# Altium schematic symbol library top_schlib.SchLib: 30 symbols
Pins are listed as number, name and electrical type; pins without a type are passive.

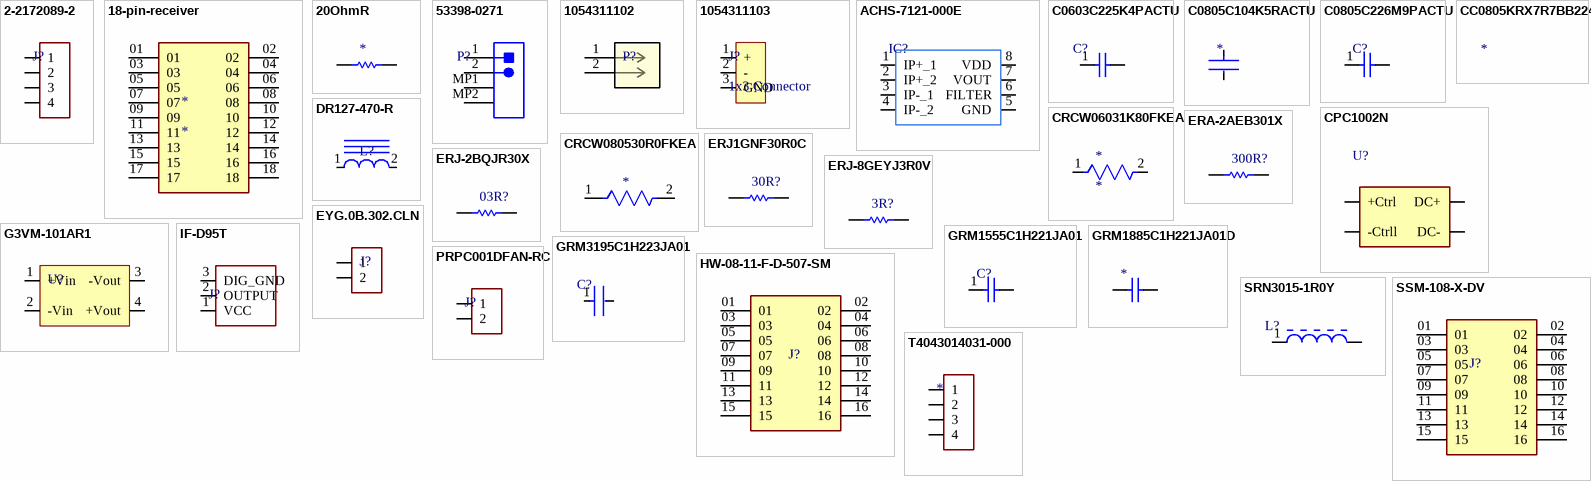
[diagram p0: symbols 2-2172089-2 to T4043014031-000]

## 2-2172089-2
designator J?  (value not drawn)
CONN RCPT FMALE 3POS GOLD SOLDER; Manufacturer: TE Connectivity; Manufacturer Part Number: 2-2172089-2; Plating: Nickel; Shielding: Shielded; Gender: Female; Connector Type: Receptacle,Socket; Connector System: Wire-to-Board; Mating Retention: Yes (With); Number of Positions: 3; Preloaded: Yes; Supplier 1: Digi-Key; Supplier Part Number 1: A120877-ND; RoHS: No; Category: Circular Connectors; Stock 1: 268; Pricing 1: 1=18.67000, 10=16.85000, 25=16.14400, 50=15.13500, 100=14.63050, 250=13.82332, 500=13.41970, 1000=13.11700 (USD); Number of Pins: 3; Color: Black; Housing Material: Metal; Insulation Material: Polyamide; Number of Signal Positions: 3; Sealable: Yes (With); ELV: Compliant; REACH SVHC: Unknown; ComponentLink1URL: http://farnell.com//datasheets/2236532.pdf?src-supplier=Farnell; ComponentLink1Description: http://farnell.com//datasheets/2236532.pdf?src-supplier=Farnell; ComponentLink2URL: https://media.digikey.com/pdf/Data%20Sheets/Tyco%20Electonics%20AMP%20PDFs/2172089.pdf?src-supplier=Digi-Key; ComponentLink2Description: https://media.digikey.com/pdf/Data%20Sheets/Tyco%20Electonics%20AMP%20PDFs/2172089.pdf?src-supplier=Digi-Key; ComponentLink3URL: http://www.farnell.com/datasheets/1945922.pdf?src-supplier=Element14; ComponentLink3Description: http://www.farnell.com/datasheets/1945922.pdf?src-supplier=Element14; ComponentLink4URL: http://www.farnell.com/cad/1879377.pdf?src-supplier=Element14; ComponentLink4Description: http://www.farnell.com/cad/1879377.pdf?src-supplier=Element14
footprint 2-2172089-2
pins: 1, 2, 3, 4

## 18-pin-receiver
designator *
footprint 18-pin-receiver
pins: 01, 02, 03, 04, 05, 06, 07, 08, 09, 10, 11, 12, 13, 14, 15, 16, 17, 18

## 20OhmR
designator *  (value not drawn)
CRCW060320R0FKEA Checked Res Thick Film 0603 20 Ohm 1% 1/10W 100ppm/C Molded SMD SMD Paper T/R Chip SMD Resistors 0.1
footprint 20Ohm
pins: 1, 2

## 53398-0271
designator P?  (value not drawn)
CONN HEADER SMD 2POS 1.25MM; Manufacturer: Molex; Manufacturer Part Number: 53398-0271; Voltage Rating: 125V; Current Rating: 1A; Contact Resistance: 20mR; Number of Positions: 2; Insulation Resistance: 100MR; Gender: Male; Glow Wire Compliant: Non-compliant; Supplier 1: Digi-Key; RoHS: Yes; Category: Headers and Wire Housings; Stock 1: 46070; Pricing 1: 1=0.53000, 10=0.49900, 100=0.38270, 500=0.33280 (USD); Mount: Surface Mount; Contact Material: Bronze,Brass,Tin; Contact Plating: Tin; Color: Natural; Housing Color: Natural; Housing Material: Nylon; Min Operating Temperature: -40°C; Max Operating Temperature: 85°C; Packaging: Tape and Reel; Package Quantity: 1000; Termination: Solder; Number of Rows: 1; Voltage Rating (AC): 125V; Number of Contacts: 2; Working Voltage: 125V; Orientation: Vertical; Number of Circuits: 2; Voltage Rating (DC): 125V; Pitch: 1.25mm; Radiation Hardening: No; REACH SVHC: Unknown; Lead Free: Lead Free; Flammability Rating: UL94 V-0; ComponentLink1URL: https://datasheet.ciiva.com/7167/1626130-7167520.pdf?src-supplier=Newark; ComponentLink1Description: https://datasheet.ciiva.com/7167/1626130-7167520.pdf?src-supplier=Newark; ComponentLink2URL: https://datasheet.ciiva.com/9468/0533980271-pcb-headers-9468512.pdf?src-supplier=Avnet; ComponentLink2Description: https://datasheet.ciiva.com/9468/0533980271-pcb-headers-9468512.pdf?src-supplier=Avnet; ComponentLink3URL: https://datasheet.ciiva.com/36178/1932619-36178944.pdf?src-supplier=Jameco; ComponentLink3Description: https://datasheet.ciiva.com/36178/1932619-36178944.pdf?src-supplier=Jameco; ComponentLink4URL: https://datasheet.ciiva.com/7920/1841150-7920834.pdf?src-supplier=Element14; ComponentLink4Description: https://datasheet.ciiva.com/7920/1841150-7920834.pdf?src-supplier=Element14; ComponentLink5URL: https://datasheet.ciiva.com/14156/gf116833-116846-e-14156243.pdf?src-supplier=Distrelec; ComponentLink5Description: https://datasheet.ciiva.com/14156/gf116833-116846-e-14156243.pdf?src-supplier=Distrelec; ComponentLink6URL: https://datasheet.ciiva.com/30229/225140533980271-pcb-headers-30229043.pdf?src-supplier=Onlinecomponents.com; ComponentLink6Description: https://datasheet.ciiva.com/30229/225140533980271-pcb-headers-30229043.pdf?src-supplier=Onlinecomponents.com; ComponentLink7URL: https://datasheet.ciiva.com/5150/0533980271-pcb-headers-146564-5150549.pdf?src-supplier=Mouser; ComponentLink7Description: https://datasheet.ciiva.com/5150/0533980271-pcb-headers-146564-5150549.pdf?src-supplier=Mouser; ComponentLink8URL: https://datasheet.ciiva.com/28523/1759360-28523372.pdf?src-supplier=Element14; ComponentLink8Description: https://datasheet.ciiva.com/28523/1759360-28523372.pdf?src-supplier=Element14; ComponentLink9URL: https://datasheet.ciiva.com/11746/0900766b80ab946a-11746463.pdf?src-supplier=RSComponents; ComponentLink9Description: https://datasheet.ciiva.com/11746/0900766b80ab946a-11746463.pdf?src-supplier=RSComponents; ComponentLink10URL: https://datasheet.ciiva.com/22707/1867379-22707654.pdf?src-supplier=Element14; ComponentLink10Description: https://datasheet.ciiva.com/22707/1867379-22707654.pdf?src-supplier=Element14; ComponentLink11URL: https://datasheet.ciiva.com/18454/70090670-18454279.pdf?src-supplier=Allied+Electronics; ComponentLink11Description: https://datasheet.ciiva.com/18454/70090670-18454279.pdf?src-supplier=Allied+Electronics; ComponentLink12URL: https://datasheet.ciiva.com/22683/1626130-22683563.pdf?src-supplier=Element14; ComponentLink12Description: https://datasheet.ciiva.com/22683/1626130-22683563.pdf?src-supplier=Element14; ComponentLink13URL: https://datasheet.ciiva.com/16658/0533980271-pcb-headers-16658429.pdf?src-supplier=Avnet+Europe; ComponentLink13Description: https://datasheet.ciiva.com/16658/0533980271-pcb-headers-16658429.pdf?src-supplier=Avnet+Europe; Supplier Part Number 1: WM7606CT-ND
footprint 2X1HEADER
pins: 1, 2, MP1, MP2

## 1054311102
designator P?  (value not drawn)
Nano-Fit Vertical Header, Surface Mount, 2.50mm Pitch, Single Row, 2 Circuits, 0.76 u00B5m Tin (Sn) Plating, Black,...; Manufacturer: Molex; Manufacturer Part Number: 1054311102; Supplier 1: Digi-Key; Supplier Part Number 1: WM26073CT-ND; RoHS: No; Category: Connectors; Stock 1: 1192; Pricing 1: 1=2.05000, 10=1.85700, 100=1.59160 (USD)
footprint CONN_1054311102_MOL
pins: 1, 2

## 1054311103
designator J?, comment 1x3 Connector
Nano-Fit Vertical Header, Surface Mount, 2.50mm Pitch, Single Row, 3 Circuits, 0.76 u00B5m Tin (Sn) Plating, Black,...; Manufacturer: Molex; Manufacturer Part Number: 1054311103; Supplier 1: Digi-Key; RoHS: No; Category: Connectors; Stock 1: 573; Pricing 1: 1=2.43000, 10=2.20800, 100=1.89240 (USD); Supplier Part Number 1: WM26074CT-ND
footprint 3x1Header
pins: 1 +, 2 -, 3 GND

## ACHS-7121-000E
designator IC?
HALL EFFECT IC LF; Manufacturer: Broadcom; Manufacturer Part Number: ACHS-7121-000E; Polarity: Bidirectional; Current Sensing: 10A; Sensitivity: 185mV/A; Frequency: 80kHz; Linearity: 0.18%; Response Time: 4us; Max Supply Current: 15mA; Supplier 1: Digi-Key; Supplier Part Number 1: 516-4080-ND; RoHS: Yes; Category: Current Sensors; Stock 1: 5473; Pricing 1: 1=4.38000, 5=3.86000, 10=3.41100, 25=2.76720, 50=2.44520, 100=2.38100, 500=1.99484, 1000=1.86615, 5000=1.73745 (USD); Mount: Surface Mount; Case/Package: SOIC; Min Operating Temperature: -40°C; Max Operating Temperature: 110°C; Packaging: Rail/Tube; Sensing Method: Hall Effect; RoHS Compliant: Yes; ComponentLink1URL: https://docs.broadcom.com/docs/ACHS-712x-DS101?src-supplier=Digi-Key; ComponentLink1Description: https://docs.broadcom.com/docs/ACHS-712x-DS101?src-supplier=Digi-Key
footprint ACHS IC
pins: 1 IP+_1, 2 IP+_2, 3 IP-_1, 4 IP-_2, 5 GND, 6 FILTER, 7 VOUT, 8 VDD

## C0603C225K4PACTU
designator C?  (value not drawn)
KEMET - C0603C225K4PACTU - CAP, MLCC, X5R, 2.2UF, 16V, 0603; Dielectric Material: Ceramic; Tolerance: 10%; Dissipation Factor: 5%; Supplier 1: Digi-Key; Supplier Part Number 1: 399-7886-1-ND; Manufacturer: KEMET; Manufacturer Part Number: C0603C225K4PACTU; RoHS: Yes; Category: Ceramic Capacitors; Stock 1: 161677; Pricing 1: 1=0.13000, 10=0.09000, 50=0.05080, 100=0.04210, 500=0.02952, 1000=0.02444 (USD); Mount: Surface Mount; Case/Package: 0603; Number of Pins: 2; Case Code (Imperial): 0603; Case Code (Metric): 1608; Contact Plating: Tin,Matte; Min Operating Temperature: -55°C; Max Operating Temperature: 85°C; Capacitance: 2.2uF; Voltage Rating (DC): 16V; Packaging: Tape and Reel; Voltage Rating: 16V; Package Quantity: 1; Termination: SMD/SMT; Voltage: 16V; Dielectric: X5R; Series: C; Construction: Flat; Length: 1.6mm; Width: 0.8mm; Height: 0.8mm; Depth: 0.8mm; Thickness: 0.034inch; Radiation Hardening: No; REACH SVHC: No SVHC; RoHS Compliant: Yes; Lead Free: Lead Free; ComponentLink1URL: https://datasheet.ciiva.com/5969/1776083-5969304.pdf?src-supplier=Farnell; ComponentLink1Description: https://datasheet.ciiva.com/5969/1776083-5969304.pdf?src-supplier=Farnell; ComponentLink2URL: https://datasheet.ciiva.com/7823/1776083-7823706.pdf?src-supplier=Element14; ComponentLink2Description: https://datasheet.ciiva.com/7823/1776083-7823706.pdf?src-supplier=Element14
footprint 2.2uF
pins: 1, 2

## C0805C104K5RACTU
designator *  (value not drawn)
Cap Ceramic 0.1uF 50V X7R 10% SMD 2.0 x 1.2 mm 125 C Paper T/R; Manufacturer: KEMET; Manufacturer Part Number: C0805C104K5RACTU; Capacitance: 100nF; Voltage: 500V; Supplier 1: Digi-Key; Supplier Part Number 1: 399-1170-1-ND; RoHS: Yes; Category: Ceramic Capacitors; Stock 1: 2447786; Pricing 1: 1=0.15000, 10=0.11000, 50=0.06220, 100=0.05150, 500=0.03612, 1000=0.02991 (USD); Mount: Surface Mount,PCB; Case/Package: 0805; Number of Pins: 2; Case Code (Imperial): 0805; Case Code (Metric): 2012; Contact Plating: Tin,Matte; Dielectric Material: Ceramic; Min Operating Temperature: -55°C; Max Operating Temperature: 125°C; Voltage Rating: 50V; Tolerance: 10%; Packaging: Tape and Reel; Dielectric: X7R; Package Quantity: 4000; Voltage Rating (DC): 50V; Series: C0805C; Termination: SMD/SMT; Construction: Flat; Length: 2mm; Width: 1.2mm; Height: 0.9mm; Thickness: 0.035inch; Depth: 1.25mm; Lead Pitch: 0.75mm; Radiation Hardening: No; RoHS Compliant: Yes; REACH SVHC: No SVHC; ComponentLink1URL: https://datasheet.ciiva.com/28682/1851736-28682232.pdf?src-supplier=Element14; ComponentLink1Description: https://datasheet.ciiva.com/28682/1851736-28682232.pdf?src-supplier=Element14; ComponentLink2URL: https://datasheet.ciiva.com/14589/70095383-14589048.pdf?src-supplier=Allied+Electronics; ComponentLink2Description: https://datasheet.ciiva.com/14589/70095383-14589048.pdf?src-supplier=Allied+Electronics; ComponentLink3URL: https://datasheet.ciiva.com/32431/slceramic-chip-condensers-e-32431755.pdf?src-supplier=Distrelec; ComponentLink3Description: https://datasheet.ciiva.com/32431/slceramic-chip-condensers-e-32431755.pdf?src-supplier=Distrelec; ComponentLink4URL: https://datasheet.ciiva.com/18410/70095383-18410815.pdf?src-supplier=Allied+Electronics; ComponentLink4Description: https://datasheet.ciiva.com/18410/70095383-18410815.pdf?src-supplier=Allied+Electronics
footprint 100nF
pins: 1, 2

## C0805C226M9PACTU
designator C?  (value not drawn)
KEMET         C0805C226M9PACTU            CERAMIC CAPACITOR, 22UF, 6.3V, X5R, 20%, 0805, FULL REEL; Dissipation Factor: 5%; Supplier 1: Digi-Key; Supplier Part Number 1: 399-4696-1-ND; Manufacturer: KEMET; Manufacturer Part Number: C0805C226M9PACTU; RoHS: Yes; Category: Ceramic Capacitors; Stock 1: 337605; Pricing 1: 1=0.21000, 10=0.14400, 50=0.08660, 100=0.07320, 500=0.05004, 1000=0.04428 (USD); Mount: Surface Mount,PCB; Case/Package: 0805; Number of Pins: 2; Case Code (Imperial): 0805; Case Code (Metric): 2012; Dielectric Material: Ceramic; Min Operating Temperature: -55°C; Max Operating Temperature: 85°C; Capacitance: 22uF; Tolerance: 20%; Package Quantity: 2500; Voltage Rating: 6.3V; Voltage Rating (DC): 6.3V; Packaging: Tape and Reel; Termination: SMD/SMT; Voltage: 6.3V; Construction: Flat; Dielectric: X5R; Length: 2mm; Width: 1.2mm; Height: 1.25mm; Depth: 1.25mm; Radiation Hardening: No; Lead Free: Lead Free; REACH SVHC: No SVHC; RoHS Compliant: Yes; ComponentLink1URL: https://datasheet.ciiva.com/7842/40889-7842585.pdf?src-supplier=Element14; ComponentLink1Description: https://datasheet.ciiva.com/7842/40889-7842585.pdf?src-supplier=Element14; ComponentLink2URL: https://datasheet.ciiva.com/18193/getdatasheetpartid-344134-18193702.pdf?src-supplier=Verical; ComponentLink2Description: https://datasheet.ciiva.com/18193/getdatasheetpartid-344134-18193702.pdf?src-supplier=Verical; ComponentLink3URL: https://datasheet.ciiva.com/22748/1918694-22748303.pdf?src-supplier=Element14; ComponentLink3Description: https://datasheet.ciiva.com/22748/1918694-22748303.pdf?src-supplier=Element14
footprint 22uF
pins: 1, 2

## CC0805KRX7R7BB224
designator *  (value not drawn)
CERAMIC CAPACITOR 0.22UF, 16V, X7R, 10%, 0805; Product Range:CC Series; Capacitance:0.22 F; Capacitance Tolerance: 10%; Dielectric Characteristic:X7R; Voltage Rating:16V; Ceramic Capacitor Case:0805 [2012 Metric]; Packaging:Cut Tape;RoHS Compliant: Yes; Manufacturer: Yageo; Manufacturer Part Number: CC0805KRX7R7BB224; Capacitance: 220nF; Insulation Resistance: 100GR; Supplier 1: Digi-Key; Supplier Part Number 1: 311-3390-1-ND; RoHS: Yes; Category: Ceramic Capacitors; Stock 1: 7010; Pricing 1: 1=0.19000, 10=0.13800, 50=0.07820, 100=0.06480, 500=0.04546, 1000=0.03763 (USD); Mount: Surface Mount; Case/Package: 0805; Number of Pins: 2; Case Code (Imperial): 0805; Case Code (Metric): 2012; Material: Ceramic; Dielectric Material: Ceramic; Min Operating Temperature: -55°C; Max Operating Temperature: 125°C; Voltage Rating: 16V; Packaging: Tape and Reel; Tolerance: 10%; Dielectric: X7R; Series: CC; Voltage: 16V; Termination: SMD/SMT; Length: 2mm; Width: 0.049inch; Height: 0.85mm; Depth: 1.25mm; Thickness: 0.037inch; Radiation Hardening: No; RoHS Compliant: Yes; REACH SVHC: Unknown; Lead Free: Lead Free; Halogen Free: Halogen Free; ComponentLink1URL: https://datasheet.ciiva.com/8034/1489800-8034021.pdf?src-supplier=Element14; ComponentLink1Description: https://datasheet.ciiva.com/8034/1489800-8034021.pdf?src-supplier=Element14; ComponentLink2URL: https://datasheet.ciiva.com/8034/1489800-8034022.pdf?src-supplier=Element14; ComponentLink2Description: https://datasheet.ciiva.com/8034/1489800-8034022.pdf?src-supplier=Element14; ComponentLink3URL: https://datasheet.ciiva.com/7978/1489800-7978206.pdf?src-supplier=Element14; ComponentLink3Description: https://datasheet.ciiva.com/7978/1489800-7978206.pdf?src-supplier=Element14; ComponentLink4URL: https://datasheet.ciiva.com/15189/getdatasheetpartid-315919-15189222.pdf?src-supplier=Verical; ComponentLink4Description: https://datasheet.ciiva.com/15189/getdatasheetpartid-315919-15189222.pdf?src-supplier=Verical; ComponentLink5URL: https://datasheet.ciiva.com/16624/upy-gphc-x7r-6-3v-to-50v-8-16624663.pdf?src-supplier=Avnet+Europe; ComponentLink5Description: https://datasheet.ciiva.com/16624/upy-gphc-x7r-6-3v-to-50v-8-16624663.pdf?src-supplier=Avnet+Europe

## CPC1002N
designator U?, comment Solid state relay  (value not drawn)
footprint CPC1002N (Solid-State Relay)
pins: 1 +Ctrl, 2 -Ctrll, 3 DC-, 4 DC+

## CRCW06031K80FKEA
designator *
Res Thick Film 0603 1.8K Ohm 1% 1/10W ±100ppm/°C Molded SMD Paper T/R; Manufacturer: Vishay; Manufacturer Part Number: CRCW06031K80FKEA; Resistance: 1.8kR; Power Rating: 100mW; Voltage Rating: 75V; Supplier 1: RSComponents; RoHS: Yes; Category: Chip SMD Resistors; Stock 1: 7900; Pricing 1: 50=0.06500, 500=0.06000, 1000=0.05600, 2000=0.05200, 4000=0.04800 (USD); Case/Package: 0603; Case Code (Metric): 1608; Case Code (Imperial): 0603; Contact Plating: Tin; Weight: 7.1E-05oz; Size Code: 0603; Min Operating Temperature: -55°C; Max Operating Temperature: 155°C; Resistor Type: Thick Film; Tolerance: 1%; Packaging: Tape and Reel; Package Quantity: 5000; Temperature Coefficient: 100ppm/°C; Series: CRCW; Resistance Tolerance: 1%; Number of Terminations: 2; Max Power Dissipation: 100mW; Termination: SMD/SMT; Construction: Rectangular; Voltage Rating (DC): 75V; Features: Automotive AEC-Q200; Technology: THICK FILM; Length: 1.55mm; Width: 0.033inch; Height: 0.45mm; Depth: 0.85mm; Radiation Hardening: No; RoHS Compliant: Yes; REACH SVHC: Unknown; Military Standard: Not; Lead Free: Lead Free; ComponentLink1URL: https://datasheet.ciiva.com/11809/0900766b80d98afc-11809198.pdf?src-supplier=RSComponents; ComponentLink1Description: https://datasheet.ciiva.com/11809/0900766b80d98afc-11809198.pdf?src-supplier=RSComponents; ComponentLink2URL: https://datasheet.ciiva.com/2559/dcrcwe3-2559458.pdf?src-supplier=Digi-Key; ComponentLink2Description: https://datasheet.ciiva.com/2559/dcrcwe3-2559458.pdf?src-supplier=Digi-Key; ComponentLink3URL: https://datasheet.ciiva.com/2559/dcrcwe3-2559459.pdf?src-supplier=Digi-Key; ComponentLink3Description: https://datasheet.ciiva.com/2559/dcrcwe3-2559459.pdf?src-supplier=Digi-Key; ComponentLink4URL: https://datasheet.ciiva.com/2559/dcrcwe3-2559460.pdf?src-supplier=Digi-Key; ComponentLink4Description: https://datasheet.ciiva.com/2559/dcrcwe3-2559460.pdf?src-supplier=Digi-Key; ComponentLink5URL: https://datasheet.ciiva.com/3257/dcrcwe3-3257191.pdf?src-supplier=Avnet; ComponentLink5Description: https://datasheet.ciiva.com/3257/dcrcwe3-3257191.pdf?src-supplier=Avnet; ComponentLink6URL: https://datasheet.ciiva.com/5547/dcrcwe3-109170-5547689.pdf?src-supplier=Mouser; ComponentLink6Description: https://datasheet.ciiva.com/5547/dcrcwe3-109170-5547689.pdf?src-supplier=Mouser; ComponentLink7URL: https://datasheet.ciiva.com/26314/fld-crcw-e3-data-en-26314680.pdf?src-supplier=Distrelec; ComponentLink7Description: https://datasheet.ciiva.com/26314/fld-crcw-e3-data-en-26314680.pdf?src-supplier=Distrelec; ComponentLink8URL: https://datasheet.ciiva.com/22872/70201119-22872444.pdf?src-supplier=Allied+Electronics; ComponentLink8Description: https://datasheet.ciiva.com/22872/70201119-22872444.pdf?src-supplier=Allied+Electronics; ComponentLink9URL: https://datasheet.ciiva.com/7673/1533075-7673143.pdf?src-supplier=Element14; ComponentLink9Description: https://datasheet.ciiva.com/7673/1533075-7673143.pdf?src-supplier=Element14
footprint 2kOhm
pins: 1, 2

## CRCW080530R0FKEA
designator *  (value not drawn)
Res Thick Film 0805 30 Ohm 1% 1/8W 100ppm/C Molded SMD SMD Paper T/R; Manufacturer: Vishay; Manufacturer Part Number: CRCW080530R0FKEA; Resistance: 30R; Power Rating: 125mW; Voltage Rating: 150V; Temperature Coefficient: 100ppm/°C; Supplier 1: Digi-Key; Supplier Part Number 1: 541-30.0CDKR-ND; RoHS: Yes; Category: Chip SMD Resistors; Pricing 1: 1=0.10000, 10=0.06700, 100=0.02710, 1000=0.01219, 2500=0.01058 (USD); Case/Package: 0805; Number of Pins: 2; Case Code (Metric): 2012; Case Code (Imperial): 0805; Contact Plating: Tin; Size Code: 0805; Weight: 0.000194oz; Min Operating Temperature: -55°C; Max Operating Temperature: 155°C; Tolerance: 1%; Packaging: Tape and Reel; Resistor Type: Thick Film; Voltage Rating (DC): 150V; Series: CRCW; Package Quantity: 10; Number of Terminations: 2; Max Power Dissipation: 125mW; Termination: SMD/SMT; Resistance Tolerance: 1%; Construction: Rectangular; Features: Automotive AEC-Q200; Technology: THICK FILM; Length: 2mm; Width: 0.049inch; Height: 0.45mm; Depth: 1.25mm; Radiation Hardening: No; RoHS Compliant: Yes; Lead Free: Lead Free; REACH SVHC: Unknown; Military Standard: Not; ComponentLink1URL: https://datasheet.ciiva.com/11810/0900766b80d98b26-11810429.pdf?src-supplier=RSComponents; ComponentLink1Description: https://datasheet.ciiva.com/11810/0900766b80d98b26-11810429.pdf?src-supplier=RSComponents; ComponentLink2URL: https://datasheet.ciiva.com/9019/dcrcwe3-9019231.pdf?src-supplier=Avnet; ComponentLink2Description: https://datasheet.ciiva.com/9019/dcrcwe3-9019231.pdf?src-supplier=Avnet; ComponentLink3URL: https://datasheet.ciiva.com/2467/dcrcwe3-2467377.pdf?src-supplier=Digi-Key; ComponentLink3Description: https://datasheet.ciiva.com/2467/dcrcwe3-2467377.pdf?src-supplier=Digi-Key; ComponentLink4URL: https://datasheet.ciiva.com/2467/dcrcwe3-2467378.pdf?src-supplier=Digi-Key; ComponentLink4Description: https://datasheet.ciiva.com/2467/dcrcwe3-2467378.pdf?src-supplier=Digi-Key; ComponentLink5URL: https://datasheet.ciiva.com/2467/dcrcwe3-2467379.pdf?src-supplier=Digi-Key; ComponentLink5Description: https://datasheet.ciiva.com/2467/dcrcwe3-2467379.pdf?src-supplier=Digi-Key; ComponentLink6URL: https://datasheet.ciiva.com/5550/dcrcwe3-109170-5550810.pdf?src-supplier=Mouser; ComponentLink6Description: https://datasheet.ciiva.com/5550/dcrcwe3-109170-5550810.pdf?src-supplier=Mouser; ComponentLink7URL: https://datasheet.ciiva.com/22682/1847332-22682669.pdf?src-supplier=Element14; ComponentLink7Description: https://datasheet.ciiva.com/22682/1847332-22682669.pdf?src-supplier=Element14; ComponentLink8URL: https://datasheet.ciiva.com/26316/fld-crcw-e3-data-en-26316525.pdf?src-supplier=Distrelec; ComponentLink8Description: https://datasheet.ciiva.com/26316/fld-crcw-e3-data-en-26316525.pdf?src-supplier=Distrelec; ComponentLink9URL: https://datasheet.ciiva.com/7732/1697337-7732101.pdf?src-supplier=Element14; ComponentLink9Description: https://datasheet.ciiva.com/7732/1697337-7732101.pdf?src-supplier=Element14; ComponentLink10URL: https://datasheet.ciiva.com/7732/1697337-7732102.pdf?src-supplier=Element14; ComponentLink10Description: https://datasheet.ciiva.com/7732/1697337-7732102.pdf?src-supplier=Element14; ComponentLink11URL: https://datasheet.ciiva.com/16852/dcrcwe3-16852253.pdf?src-supplier=Avnet+Europe; ComponentLink11Description: https://datasheet.ciiva.com/16852/dcrcwe3-16852253.pdf?src-supplier=Avnet+Europe
footprint large30R
pins: 1, 2

## DR127-470-R
designator L?  (value not drawn)
FIXED IND 47UH 2.95A 71.9 MOHM; Manufacturer: Eaton Cooper; Manufacturer Part Number: DR127-470-R; Core Material: Ferrite; Tolerance: 20%; DC Resistance (DCR): 71.9mR; Max DC Current: 5.28A; Shielding: Shielded; Self Resonant Frequency: 100kHz; Inductor Type: POWER INDUCTOR; Supplier 1: Digi-Key; Supplier Part Number 1: 513-1050-1-ND; RoHS: Yes; Category: Fixed Inductors; Stock 1: 351; Pricing 1: 1=1.36000, 10=1.26800, 25=1.17000, 50=0.97500, 100=0.91650 (USD); Mount: Surface Mount; Case/Package: Nonstandard; Number of Pins: 2; Weight: 0.208oz; Min Operating Temperature: -40°C; Max Operating Temperature: 125°C; Package Quantity: 350; Packaging: Tape and Reel; Inductance Tolerance: 20%; Inductance: 47uH; Termination: SMD/SMT; Current Rating: 2.95A; Test Frequency: 100kHz; RMS Current (Irms): 2.95A; Series: DR; Saturation Current: 5.28A; Resistor Type: Wirewound; Rated Current-Max: 2.95A; Length: 12.5mm; Width: 0.492inch; Height: 8mm; Depth: 12.5mm; Height - Seated (Max): 0.315inch; Radiation Hardening: No; REACH SVHC: No SVHC; RoHS Compliant: Yes; Lead Free: Lead Free; Military Standard: Not; ComponentLink1URL: https://datasheet.ciiva.com/14667/0900766b8116a153-14667792.pdf?src-supplier=RSComponents; ComponentLink1Description: https://datasheet.ciiva.com/14667/0900766b8116a153-14667792.pdf?src-supplier=RSComponents; ComponentLink2URL: https://datasheet.ciiva.com/26858/getdatasheetpartid-251127-26858422.pdf?src-supplier=Verical; ComponentLink2Description: https://datasheet.ciiva.com/26858/getdatasheetpartid-251127-26858422.pdf?src-supplier=Verical; ComponentLink3URL: https://datasheet.ciiva.com/16940/70037876-16940727.pdf?src-supplier=Allied+Electronics; ComponentLink3Description: https://datasheet.ciiva.com/16940/70037876-16940727.pdf?src-supplier=Allied+Electronics; ComponentLink4URL: https://datasheet.ciiva.com/30240/43bus-elx-ds-4315-dr-ser-30240985.pdf?src-supplier=Onlinecomponents.com; ComponentLink4Description: https://datasheet.ciiva.com/30240/43bus-elx-ds-4315-dr-ser-30240985.pdf?src-supplier=Onlinecomponents.com; ComponentLink5URL: https://datasheet.ciiva.com/8005/87246-8005180.pdf?src-supplier=Element14; ComponentLink5Description: https://datasheet.ciiva.com/8005/87246-8005180.pdf?src-supplier=Element14
footprint 47 uH
pins: 1, 2

## ERA-2AEB301X
designator 300R?  (value not drawn)
PANASONIC ELECTRONIC COMPONENTS         ERA2AEB301X            Surface Mount Chip Resistor, Metal Film, AEC-Q200 ERA Series, 300 ohm, 63 mW,  0.1%, 25 V; Manufacturer Part Number: ERA-2AEB301X; Resistance: 300R; Temperature Coefficient: 25ppm/°C; Power Rating: 63mW; Voltage Rating: 25V; Supplier 1: Digi-Key; Supplier Part Number 1: P300DCCT-ND; Manufacturer: Panasonic; RoHS: Yes; Category: Chip SMD Resistors; Stock 1: 16035; Pricing 1: 1=0.39000, 10=0.27800, 100=0.11110, 1000=0.05474, 2500=0.05072, 5000=0.04589 (USD); Mount: Surface Mount; Case/Package: 0402; Contact Plating: Tin; Case Code (Metric): 1005; Case Code (Imperial): 0402; Min Operating Temperature: -55°C; Max Operating Temperature: 155°C; Tolerance: 0.1%; Resistor Type: Metal Film; Packaging: Tape and Reel; Package Quantity: 1; Number of Terminations: 2; Termination: SMD/SMT; Max Power Dissipation: 63mW; Voltage Rating (DC): 25V; Features: Automotive AEC-Q200; Series: ERA-2A; Construction: Rectangular; Resistance Tolerance: 0.1%; Length: 1mm; Width: 0.02inch; Height: 0.016inch; Depth: 0.5mm; Radiation Hardening: No; REACH SVHC: No SVHC; Military Standard: Not; Lead Free: Lead Free; RoHS Compliant: Yes; ComponentLink1URL: https://datasheet.ciiva.com/17206/aoa0000ce26-17206360.pdf?src-supplier=Avnet+Europe; ComponentLink1Description: https://datasheet.ciiva.com/17206/aoa0000ce26-17206360.pdf?src-supplier=Avnet+Europe; ComponentLink2URL: https://datasheet.ciiva.com/30166/54aoa0000ce26-30166093.pdf?src-supplier=Onlinecomponents.com; ComponentLink2Description: https://datasheet.ciiva.com/30166/54aoa0000ce26-30166093.pdf?src-supplier=Onlinecomponents.com; ComponentLink3URL: https://datasheet.ciiva.com/9183/aoa0000ce26-9183279.pdf?src-supplier=Avnet; ComponentLink3Description: https://datasheet.ciiva.com/9183/aoa0000ce26-9183279.pdf?src-supplier=Avnet; ComponentLink4URL: https://datasheet.ciiva.com/43470/1776116-43470491.pdf?src-supplier=Farnell; ComponentLink4Description: https://datasheet.ciiva.com/43470/1776116-43470491.pdf?src-supplier=Farnell; ComponentLink5URL: https://datasheet.ciiva.com/46378/1776116-46378191.pdf?src-supplier=Element14; ComponentLink5Description: https://datasheet.ciiva.com/46378/1776116-46378191.pdf?src-supplier=Element14
footprint 300 Ohm
pins: 1, 2

## ERJ1GNF30R0C
designator 30R?  (value not drawn)
Thick Film Resistors 0201 30ohm 1% HalogenFree AEC-Q200; Manufacturer: Panasonic; Manufacturer Part Number: ERJ1GNF30R0C; Resistance: 30R; Power Rating: 50mW; Voltage Rating: 25V; Temperature Coefficient: 200ppm/°C; Supplier 1: Digi-Key; Supplier Part Number 1: P122923CT-ND; RoHS: Yes; Category: Chip SMD Resistors; Stock 1: 45233; Pricing 1: 1=0.10000, 10=0.04600, 100=0.01890, 1000=0.00848, 2500=0.00736, 5000=0.00608 (USD); Mount: Surface Mount; Case/Package: 0201; Number of Pins: 2; Case Code (Metric): 0603; Case Code (Imperial): 0201; Weight: 6E-06oz; Min Operating Temperature: -55°C; Max Operating Temperature: 125°C; Packaging: Tape and Reel; Tolerance: 1%; Package Quantity: 15000; Resistor Type: Thick Film; Number of Terminations: 2; Termination: SMD/SMT; Max Power Dissipation: 50mW; Voltage Rating (DC): 25V; Series: ERJ; Construction: Rectangular; Resistance Tolerance: 1%; Length: 0.6mm; Width: 0.012inch; Height: 0.01inch; Depth: 0.3mm; Radiation Hardening: No; Military Standard: Not; RoHS Compliant: Yes; REACH SVHC: Unknown; ComponentLink1URL: https://datasheet.ciiva.com/43467/1678782-43467017.pdf?src-supplier=Farnell; ComponentLink1Description: https://datasheet.ciiva.com/43467/1678782-43467017.pdf?src-supplier=Farnell; ComponentLink2URL: https://datasheet.ciiva.com/46373/1678782-46373500.pdf?src-supplier=Element14; ComponentLink2Description: https://datasheet.ciiva.com/46373/1678782-46373500.pdf?src-supplier=Element14; ComponentLink3URL: https://datasheet.ciiva.com/24128/aoa0000ce2-24128351.pdf?src-supplier=Mouser; ComponentLink3Description: https://datasheet.ciiva.com/24128/aoa0000ce2-24128351.pdf?src-supplier=Mouser
footprint 30 Ohm
pins: 1, 2

## ERJ-2BQJR30X
designator 03R?  (value not drawn)
RES 0.3 OHM 5% 1/6W 0402; Manufacturer: Panasonic; Manufacturer Part Number: ERJ-2BQJR30X; Max Power Dissipation: 167mW; Temperature Coefficient: 250ppm/°C; Resistance: 300mR; Supplier 1: Digi-Key; Supplier Part Number 1: P17347CT-ND; RoHS: Yes; Category: Chip SMD Resistors; Stock 1: 18282; Pricing 1: 1=0.21000, 10=0.17600, 25=0.12800, 50=0.09280, 100=0.06880, 250=0.05280, 500=0.04160, 1000=0.02880, 5000=0.02400 (USD); Case/Package: 0402; Case Code (Imperial): 0402; Case Code (Metric): 1005; Min Operating Temperature: -55°C; Max Operating Temperature: 125°C; Features: Automotive AEC-Q200; Tolerance: 5%; Packaging: Tape and Reel; Resistor Type: Thick Film; Number of Terminations: 2; Length: 0.039inch; Width: 0.02inch; Height: 0.016inch; ComponentLink1URL: http://www.mouser.com/ds/2/315/AOA0000C295-1109214.pdf?src-supplier=Mouser; ComponentLink1Description: http://www.mouser.com/ds/2/315/AOA0000C295-1109214.pdf?src-supplier=Mouser; ComponentLink2URL: https://industrial.panasonic.com/cdbs/www-data/pdf/RDN0000/AOA0000C313.pdf?src-supplier=Digi-Key; ComponentLink2Description: https://industrial.panasonic.com/cdbs/www-data/pdf/RDN0000/AOA0000C313.pdf?src-supplier=Digi-Key
footprint 03 Ohm
pins: 1, 2

## ERJ-8GEYJ3R0V
designator 3R?  (value not drawn)
Res Thick Film 1206 3 Ohm 5% 1/4W -100ppm/C to 600ppm/C Molded SMD Punched Carrier T/R; Manufacturer: Panasonic; Manufacturer Part Number: ERJ-8GEYJ3R0V; Resistance: 3R; Temperature Coefficient: 600ppm/°C; Power Rating: 250mW; Voltage Rating: 200V; Supplier 1: Digi-Key; Supplier Part Number 1: P3.0ECT-ND; RoHS: Yes; Category: Chip SMD Resistors; Stock 1: 140112; Pricing 1: 1=0.10000, 10=0.05900, 100=0.02420, 1000=0.01087, 2500=0.00943 (USD); Mount: Surface Mount; Case/Package: 1206; Case Code (Metric): 3216; Case Code (Imperial): 1206; Contact Plating: Tin; Min Operating Temperature: -55°C; Max Operating Temperature: 155°C; Tolerance: 5%; Packaging: Tape and Reel; Resistor Type: Thick Film; Number of Terminations: 2; Max Power Dissipation: 250mW; Voltage Rating (DC): 200V; Package Quantity: 1; Features: Automotive AEC-Q200; Series: ERJ; Construction: Rectangular; Resistance Tolerance: 5%; Length: 3.2mm; Width: 0.063inch; Height: 0.028inch; Depth: 1.6mm; Radiation Hardening: No; Lead Free: Lead Free; RoHS Compliant: Yes; Military Standard: Not; REACH SVHC: No SVHC; ComponentLink1URL: https://datasheet.ciiva.com/30180/4aoa0000ce1-30180605.pdf?src-supplier=Onlinecomponents.com; ComponentLink1Description: https://datasheet.ciiva.com/30180/4aoa0000ce1-30180605.pdf?src-supplier=Onlinecomponents.com; ComponentLink2URL: https://datasheet.ciiva.com/17213/aoa0000ce1-17213823.pdf?src-supplier=Avnet+Europe; ComponentLink2Description: https://datasheet.ciiva.com/17213/aoa0000ce1-17213823.pdf?src-supplier=Avnet+Europe; ComponentLink3URL: https://datasheet.ciiva.com/46387/1500035-46387035.pdf?src-supplier=Element14; ComponentLink3Description: https://datasheet.ciiva.com/46387/1500035-46387035.pdf?src-supplier=Element14; ComponentLink4URL: https://datasheet.ciiva.com/46374/1500035-46374140.pdf?src-supplier=Element14; ComponentLink4Description: https://datasheet.ciiva.com/46374/1500035-46374140.pdf?src-supplier=Element14; ComponentLink5URL: https://datasheet.ciiva.com/9196/aoa0000ce1-9196703.pdf?src-supplier=Avnet; ComponentLink5Description: https://datasheet.ciiva.com/9196/aoa0000ce1-9196703.pdf?src-supplier=Avnet
footprint 3 ohm
pins: 1, 2

## EYG.0B.302.CLN
designator J?  (value not drawn)
Circular Push Pull Connectors FIX RECPT F PR CRCT; Manufacturer: LEMO; Manufacturer Part Number: EYG.0B.302.CLN; Current Rating: 10A; Connector Type: Receptacle; Number of Positions: 2; Gender: Female; Ratings: IP50; Supplier 1: Digi-Key; Supplier Part Number 1: EYG.0B.302.CLN-ND; RoHS: Yes; Category: Circular Connectors; Pricing 1: 1=29.67000, 10=26.78700, 25=25.66400, 50=24.06000, 100=23.25800, 250=21.97480, 500=21.33320, 1000=20.85200 (USD); Mount: Through Hole,Panel,Bulkhead; Contact Plating: Gold; Housing Material: Brass; Min Operating Temperature: -55°C; Max Operating Temperature: 250°C; Package Quantity: 1; Packaging: Bulk; Fastening Type: Push,Pull; Termination: Solder; Number of Contacts: 2; Features: Shielded; Diameter: 12mm; Length: 15mm; ComponentLink1URL: https://datasheet.ciiva.com/5104/unipole-multipole-5104333.pdf?src-supplier=Mouser; ComponentLink1Description: https://datasheet.ciiva.com/5104/unipole-multipole-5104333.pdf?src-supplier=Mouser
footprint EYG.0B.302.CLN (Socket, Female, Body 9mm dia. Height 15 mm, Through hole)
pins: 1, 2

## G3VM-101AR1
designator U?, comment MOSFET Relay  (value not drawn)
Solid State Relays - PCB Mount High power, 2.0-A switching with a 100-V load voltage, DIP4 package. Low 110 mO ON Resistance.; Manufacturer: Omron; Manufacturer Part Number: G3VM-101AR1; Supplier 1: Newark; Supplier Part Number 1: 64AH3544; RoHS: No; Stock 1: 70; Pricing 1: 1=8.30000, 5=7.51000, 10=7.32000, 25=7.16000, 50=6.80000, 100=6.12000, 250=5.64000 (USD)
footprint G3VM Relay
pins: 1 +Vin, 2 -Vin, 3 -Vout, 4 +Vout

## GRM1555C1H221JA01
designator C?  (value not drawn)
MURATA - 220 pF; Manufacturer: KEMET; Manufacturer Part Number: C0402C221K5RACTU; Dielectric Material: Ceramic; Capacitance: 220pF; Voltage Rating: 50V; Tolerance: 10%; Dielectric: X7R; Dissipation Factor: 2.5%; RoHS: Yes; Category: Ceramic Capacitors; Stock 1: 199654; Pricing 1: 1=0.10000, 10=0.03600, 50=0.01980, 100=0.01620, 500=0.01156, 1000=0.00908, 2500=0.00825, 5000=0.00759 (USD); Mount: Surface Mount,PCB; Case/Package: 0402; Number of Pins: 2; Case Code (Imperial): 0402; Case Code (Metric): 1005; Contact Plating: Tin,Matte; Weight: 2.3E-05oz; Min Operating Temperature: -55°C; Max Operating Temperature: 125°C; Packaging: Tape and Reel; Voltage Rating (DC): 50V; Package Quantity: 1; Termination: SMD/SMT; Voltage: 50V; Series: C; Construction: Flat; Length: 1mm; Width: 0.5mm; Height: 0.5mm; Thickness: 0.022inch; Depth: 0.5mm; Lead Pitch: 0.3mm; Radiation Hardening: No; RoHS Compliant: Yes; REACH SVHC: No SVHC; ComponentLink1URL: https://datasheet.ciiva.com/7747/1807957-7747493.pdf?src-supplier=Element14; ComponentLink1Description: https://datasheet.ciiva.com/7747/1807957-7747493.pdf?src-supplier=Element14; ComponentLink2URL: https://datasheet.ciiva.com/5969/kem-c1002-x7r-smd-5969768.pdf?src-supplier=Farnell; ComponentLink2Description: https://datasheet.ciiva.com/5969/kem-c1002-x7r-smd-5969768.pdf?src-supplier=Farnell; ComponentLink3URL: https://datasheet.ciiva.com/14609/70095383-14609163.pdf?src-supplier=Allied+Electronics; ComponentLink3Description: https://datasheet.ciiva.com/14609/70095383-14609163.pdf?src-supplier=Allied+Electronics; ComponentLink4URL: https://datasheet.ciiva.com/28645/1851736-28645422.pdf?src-supplier=Element14; ComponentLink4Description: https://datasheet.ciiva.com/28645/1851736-28645422.pdf?src-supplier=Element14; Supplier 1: Avnet; Supplier Part Number 1: GRM1555C1H221JA01D
footprint 220pF
pins: 1, 2

## GRM1885C1H221JA01D
designator *  (value not drawn)
MURATA - GRM1885C1H221JA01D - CAP, MLCC, C0G/NP0, 220PF, 50V, 0603; Dielectric Material: Ceramic; Tolerance: 5%; Dielectric: C0G; Temperature Coefficient: 30ppm/°C; Insulation Resistance: 10GR; Supplier 1: Digi-Key; Supplier Part Number 1: 490-1435-1-ND; Manufacturer: Murata; Manufacturer Part Number: GRM1885C1H221JA01D; RoHS: Yes; Category: Ceramic Capacitors; Stock 1: 222188; Pricing 1: 1=0.11000, 10=0.07700, 50=0.04380, 100=0.03640, 500=0.02550, 1000=0.02111 (USD); Mount: Surface Mount; Case/Package: 0603; Number of Pins: 2; Case Code (Metric): 1608; Case Code (Imperial): 0603; Material: Ceramic; Weight: 0.000222oz; Min Operating Temperature: -55°C; Max Operating Temperature: 125°C; Capacitance: 220pF; Voltage Rating: 50V; Packaging: Tape and Reel; Package Quantity: 1; Voltage Rating (DC): 50V; Termination: SMD/SMT; Voltage: 50V; Series: GRM; Construction: Flat; Length: 1.6mm; Width: 0.031inch; Height: 0.8mm; Thickness: 0.035inch; Depth: 0.8mm; Size: 0.8mm; Radiation Hardening: No; RoHS Compliant: Yes; REACH SVHC: No SVHC; Lead Free: Lead Free; ComponentLink1URL: https://datasheet.ciiva.com/131/product-131744.pdf?src-supplier=Digi-Key; ComponentLink1Description: https://datasheet.ciiva.com/131/product-131744.pdf?src-supplier=Digi-Key; ComponentLink2URL: https://datasheet.ciiva.com/3777/9726grm1885c1h221ja0123-3777073.pdf?src-supplier=Arrow+Electronics; ComponentLink2Description: https://datasheet.ciiva.com/3777/9726grm1885c1h221ja0123-3777073.pdf?src-supplier=Arrow+Electronics; ComponentLink3URL: https://datasheet.ciiva.com/11787/0900766b80ef921d-11787203.pdf?src-supplier=RSComponents; ComponentLink3Description: https://datasheet.ciiva.com/11787/0900766b80ef921d-11787203.pdf?src-supplier=RSComponents; ComponentLink4URL: https://datasheet.ciiva.com/19476/1856804-19476325.pdf?src-supplier=Jameco; ComponentLink4Description: https://datasheet.ciiva.com/19476/1856804-19476325.pdf?src-supplier=Jameco; ComponentLink5URL: https://datasheet.ciiva.com/131/partnumbering-e-01-131745.pdf?src-supplier=Digi-Key; ComponentLink5Description: https://datasheet.ciiva.com/131/partnumbering-e-01-131745.pdf?src-supplier=Digi-Key; ComponentLink6URL: https://datasheet.ciiva.com/131/partnumbering-e-01-131746.pdf?src-supplier=Digi-Key; ComponentLink6Description: https://datasheet.ciiva.com/131/partnumbering-e-01-131746.pdf?src-supplier=Digi-Key; ComponentLink7URL: https://datasheet.ciiva.com/24218/c02e-24218501.pdf?src-supplier=Mouser; ComponentLink7Description: https://datasheet.ciiva.com/24218/c02e-24218501.pdf?src-supplier=Mouser; ComponentLink8URL: https://datasheet.ciiva.com/7828/4360-7828917.pdf?src-supplier=Element14; ComponentLink8Description: https://datasheet.ciiva.com/7828/4360-7828917.pdf?src-supplier=Element14; ComponentLink9URL: https://datasheet.ciiva.com/14116/grmseries-tc-hitype-eng-14116829.pdf?src-supplier=Distrelec; ComponentLink9Description: https://datasheet.ciiva.com/14116/grmseries-tc-hitype-eng-14116829.pdf?src-supplier=Distrelec
footprint 220pF BIG
pins: 1, 2

## GRM3195C1H223JA01
designator C?  (value not drawn)
MURATA - GRM3195C1H223JA01 - CAP; Manufacturer: KEMET; Manufacturer Part Number: C0805C223K5RACTU; Dielectric Material: Ceramic; Tolerance: 10%; Capacitance: 22nF; Dielectric: X7R; Voltage Rating: 50V; RoHS: Yes; Category: Ceramic Capacitors; Stock 1: 179680; Pricing 1: 1=0.10000, 10=0.05200, 50=0.02840, 100=0.02320, 500=0.01656, 1000=0.01301 (USD); Mount: Surface Mount,PCB; Case/Package: 0805; Case Code (Imperial): 0805; Case Code (Metric): 2012; Weight: 0.000194oz; Min Operating Temperature: -55°C; Max Operating Temperature: 125°C; Packaging: Tape and Reel; Voltage Rating (DC): 50V; Voltage: 50V; Series: C0805C; Termination: SMD/SMT; Construction: Flat; Length: 2mm; Width: 1.2mm; Height: 0.78mm; Depth: 1.25mm; Radiation Hardening: No; RoHS Compliant: Yes; REACH SVHC: No SVHC; ComponentLink1URL: https://datasheet.ciiva.com/18193/getdatasheetpartid-385695-18193669.pdf?src-supplier=Verical; ComponentLink1Description: https://datasheet.ciiva.com/18193/getdatasheetpartid-385695-18193669.pdf?src-supplier=Verical; Supplier 1: Digi-Key; Supplier Part Number 1: 490-1761-1-ND
footprint 22nF
pins: 1, 2

## HW-08-11-F-D-507-SM
designator J?  (value not drawn)
System: Connector
footprint 16 pin receiver
pins: 01, 02, 03, 04, 05, 06, 07, 08, 09, 10, 11, 12, 13, 14, 15, 16

## IF-D95T
designator J?  (value not drawn)
DETECTOR PHOTOLOGIC TTL/CMOS; Manufacturer: Industrial Fiber Optics; Data Rate: 125Kbps; Operating Supply Current: 6mA; Rise Time: 70ns; Supplier 1: Digi-Key; Supplier Part Number 1: FB123-ND; Manufacturer Part Number: IF-D95T; RoHS: No; Category: Fiber Optic Cables; Package Quantity: 50; Lead Free: Contains Lead; ComponentLink1URL: https://datasheet.ciiva.com/2106/ifd95-2106550.pdf?src-supplier=Digi-Key; ComponentLink1Description: https://datasheet.ciiva.com/2106/ifd95-2106550.pdf?src-supplier=Digi-Key
footprint IF-D95
pins: 1 VCC, 2 OUTPUT, 3 DIG_GND

## PRPC001DFAN-RC
designator J?  (value not drawn)
Conn Header Vert 2POS; Manufacturer: Sullins; Manufacturer Part Number: PRPC001DFAN-RC; Number of Positions: 2; Connector Type: Male Pin; Row Spacing: 0.1inch; Supplier 1: Digi-Key; Supplier Part Number 1: S2211EC-01-ND; RoHS: Yes; Category: Connectors; Stock 1: 5964; Pricing 1: 1=0.09000, 10=0.08300, 25=0.06160, 50=0.05280, 100=0.05110, 250=0.04404, 500=0.04226 (USD); Mount: Through Hole; Color: Black; Contact Plating: Gold; Packaging: Bulk; Number of Rows: 2; Package Quantity: 1; Termination: Solder; Contact Mating Length: 0.318inch; ComponentLink1URL: https://datasheet.ciiva.com/741/xrxczzzdxxn-rc-11636-b-741404.pdf?src-supplier=Digi-Key; ComponentLink1Description: https://datasheet.ciiva.com/741/xrxczzzdxxn-rc-11636-b-741404.pdf?src-supplier=Digi-Key
footprint PRPC001DFAN-RC
pins: 1, 2

## SRN3015-1R0Y
designator L?  (value not drawn)
INDUCTOR, POWER, 1UH, SEMI SHIELDED; Manufacturer: Bourns; Manufacturer Part Number: SRN3015-1R0Y; Core Material: Ferrite; Material: Steel; Self Resonant Frequency: 145MHz; Tolerance: 30%; Current Rating: 2.35A; DC Resistance (DCR): 48mR; Test Frequency: 1MHz; Supplier 1: Digi-Key; Supplier Part Number 1: SRN3015-1R0YCT-ND; RoHS: Yes; Category: Fixed Inductors; Stock 1: 8610; Pricing 1: 1=0.46000, 10=0.40400, 25=0.37520, 50=0.31760, 100=0.28880, 250=0.27144, 500=0.24256, 1000=0.19635 (USD); Case/Package: 1212; Number of Pins: 2; Weight: 0.001235oz; Contact Plating: Tin; Min Operating Temperature: -40°C; Max Operating Temperature: 125°C; Shielding: Shielded; Package Quantity: 2000; Inductance: 1uH; Packaging: Tape and Reel; Max DC Current: 2.35A; Termination: SMD/SMT; Inductance Tolerance: 30%; Saturation Current: 2.35A; RMS Current (Irms): 2.35A; Series: SRN3015; Resistor Type: Wirewound; DC Current: 2.35A; Frequency: 145MHz; Sample Rate (Hz): 1MHz; Length: 3mm; Width: 3mm; Height: 1.5mm; Depth: 3.1mm; Height - Seated (Max): 0.059inch; REACH SVHC: No SVHC; Military Standard: Not; RoHS Compliant: Yes; ComponentLink1URL: https://datasheet.ciiva.com/11802/0900766b80fe1f40-11802588.pdf?src-supplier=RSComponents; ComponentLink1Description: https://datasheet.ciiva.com/11802/0900766b80fe1f40-11802588.pdf?src-supplier=RSComponents; ComponentLink2URL: https://datasheet.ciiva.com/16940/70230774-16940935.pdf?src-supplier=Allied+Electronics; ComponentLink2Description: https://datasheet.ciiva.com/16940/70230774-16940935.pdf?src-supplier=Allied+Electronics; ComponentLink3URL: https://datasheet.ciiva.com/1048/srn3015-1048824.pdf?src-supplier=Digi-Key; ComponentLink3Description: https://datasheet.ciiva.com/1048/srn3015-1048824.pdf?src-supplier=Digi-Key; ComponentLink4URL: https://datasheet.ciiva.com/28678/1481208-28678232.pdf?src-supplier=Element14; ComponentLink4Description: https://datasheet.ciiva.com/28678/1481208-28678232.pdf?src-supplier=Element14; ComponentLink5URL: https://datasheet.ciiva.com/30197/587srn3015-30197944.pdf?src-supplier=Onlinecomponents.com; ComponentLink5Description: https://datasheet.ciiva.com/30197/587srn3015-30197944.pdf?src-supplier=Onlinecomponents.com; ComponentLink6URL: https://datasheet.ciiva.com/1048/srn3015-1048825.pdf?src-supplier=Digi-Key; ComponentLink6Description: https://datasheet.ciiva.com/1048/srn3015-1048825.pdf?src-supplier=Digi-Key; ComponentLink7URL: https://datasheet.ciiva.com/1048/srn3015-1048826.pdf?src-supplier=Digi-Key; ComponentLink7Description: https://datasheet.ciiva.com/1048/srn3015-1048826.pdf?src-supplier=Digi-Key; ComponentLink8URL: https://datasheet.ciiva.com/17284/srn3015-17284732.pdf?src-supplier=Avnet+Europe; ComponentLink8Description: https://datasheet.ciiva.com/17284/srn3015-17284732.pdf?src-supplier=Avnet+Europe; ComponentLink9URL: https://datasheet.ciiva.com/8517/srn3015-8517694.pdf?src-supplier=Avnet; ComponentLink9Description: https://datasheet.ciiva.com/8517/srn3015-8517694.pdf?src-supplier=Avnet; ComponentLink10URL: https://datasheet.ciiva.com/5986/srn3015-5986175.pdf?src-supplier=Farnell; ComponentLink10Description: https://datasheet.ciiva.com/5986/srn3015-5986175.pdf?src-supplier=Farnell; ComponentLink11URL: https://datasheet.ciiva.com/7847/srn3015-7847903.pdf?src-supplier=Element14; ComponentLink11Description: https://datasheet.ciiva.com/7847/srn3015-7847903.pdf?src-supplier=Element14
footprint 1uH
pins: 1, 2

## SSM-108-X-DV
designator J?  (value not drawn)
footprint 16 pin header
pins: 01, 02, 03, 04, 05, 06, 07, 08, 09, 10, 11, 12, 13, 14, 15, 16

## T4043014031-000
designator *  (value not drawn)
M8 Circular Metric, Female, Panel, 3-Pos, PCB, M8 Connector Series; Manufacturer: TE Connectivity; Manufacturer Part Number: T4043014031-000; Plating: Nickel; Connector Type: Receptacle; Circuit Application: Signal; Connector System: Wire-to-Board; Factory Installed Backshell: No (Without); Number of Positions: 3; Preloaded: Yes; Sealable: Yes (With); Shielding: Unshielded; Contact Current Rating: 3A; Supplier 1: Digi-Key; Supplier Part Number 1: A126826-ND; RoHS: No; Category: Circular Connectors; Stock 1: 90; Pricing 1: 1=6.03000, 10=5.78400, 25=5.30200, 50=5.06100, 100=4.82000, 250=4.21752, 500=4.09700, 1000=3.49450, 2500=3.25350 (USD); Insulation Material: Polyamide; Shell Material: Copper Alloy; Min Operating Temperature: -40°C; Max Operating Temperature: 85°C; Number of Signal Positions: 3; Package Quantity: 1; ComponentLink1URL: https://www.te.com/commerce/DocumentDelivery/DDEController?Action=srchrtrv&amp;DocNm=T40430140X1000&amp;DocType=Customer+Drawing&amp;DocLang=English&src-supplier=Digi-Key; ComponentLink1Description: https://www.te.com/commerce/DocumentDelivery/DDEController?Action=srchrtrv&amp;DocNm=T40430140X1000&amp;DocType=Customer+Drawing&amp;DocLang=English&src-supplier=Digi-Key
footprint TE_M8_CIRCULAR
pins: 1, 2, 3, 4